# EAGLE library part FJ5101BH (library FJ5101BH)
Single Digit LED Numeric Display (anode common) FJ5101BH China 20*12.8mm
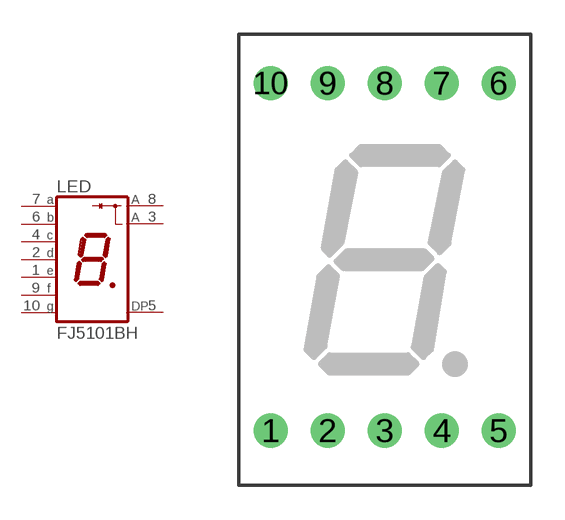
[diagram p0: symbol with the pads of LA-401; footprint LA-401]

Designator prefix LED

## FJ5101BHA, FJ5101BHB, FJ5101BHE, FJ5101BHM, FJ5101BHV, FJ5101BHX  [LA-401]
1  E  pas
2  D  pas
3  C  pas
4  C  pas
5  DP  pas
6  B  pas
7  A  pas
8  C  pas
9  F  pas
10  G  pas

## Footprint LA-401 (pad centres in mm)
Single Digit LED Numeric Display 10.16 mm Source: ROHM .. la-401dn.pdf
drill 0.9 pad 1.5 round: 1 -5,-7.5; 2 -2.5,-7.5; 3 0,-7.5; 4 2.5,-7.5; 5 5,-7.5; 6 5,7.75; 7 2.5,7.75; 8 0,7.75; 9 -2.5,7.75; 10 -5,7.75